# EAGLE library part FEMALE_44-PIN_CARD_EDGE_CONNECTOR (library female-44-pin-edge-connector)
Female Connector for Commodore 64 44-Contact (22 top + 22 bottom) Expansion Port Card-Edge. Contacts are on a 0.1" (2.54 mm) pitch. Row pitch is 0.2" (5.08 mm). Contacts are numbered 1 to 22 on top and A to Z on bottom (excludes G, I, O, and Q). Contacts 1 and A are on same end of card-edge. Accepts board thickness of 0.062" (1.57 mm).
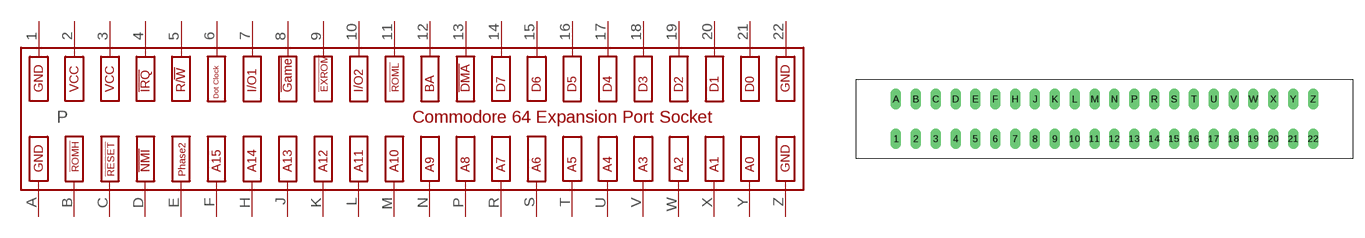
[diagram p0: symbol with the pads of FEMALE_44-PIN_CARD_EDGE_CONNECTOR; footprint FEMALE_44-PIN_CARD_EDGE_CONNECTOR]

Designator prefix P

## FEMALE_44-PIN_CARD_EDGE_CONNECTOR  [FEMALE_44-PIN_CARD_EDGE_CONNECTOR]
1  GND  pwr
2  VCC  pwr
3  VCC  pwr
4  !IRQ
5  R/!W
6  DOT_CLOCK
7  I/O1
8  !GAME
9  !EXROM
10  I/O2
11  !ROML
12  BA
13  !DMA
14  D7
15  D6
16  D5
17  D4
18  D3
19  D2
20  D1
21  D0
22  GND  pwr
A  GND  pwr
B  !ROMH
C  !RESET
D  !NMI
E  PHASE2
F  A15
H  A14
J  A13
K  A12
L  A11
M  A10
N  A9
P  A8
R  A7
S  A6
T  A5
U  A4
V  A3
W  A2
X  A1
Y  A0
Z  GND  pwr

## Footprint FEMALE_44-PIN_CARD_EDGE_CONNECTOR (pad centres in mm)
Female Connector for Commodore 64 44-Contact (22 top + 22 bottom) Expansion Port Card-Edge. Contacts are on a 0.1" (2.54 mm) pitch. Row pitch is 0.2" (5.08 mm). Contacts are numbered 1 to 22 on top and A to Z on bottom (excludes G, I, O, and Q). Contacts 1 and A are on same end of card-edge. Accepts board thickness of 0.062" (1.57 mm).
drill 0.813 long: 1 -26.67,-2.54; 2 -24.13,-2.54; 3 -21.59,-2.54; 4 -19.05,-2.54; 5 -16.51,-2.54; 6 -13.97,-2.54; 7 -11.43,-2.54; 8 -8.89,-2.54; 9 -6.35,-2.54; 10 -3.81,-2.54; 11 -1.27,-2.54; 12 1.27,-2.54; 13 3.81,-2.54; 14 6.35,-2.54; 15 8.89,-2.54; 16 11.43,-2.54; 17 13.97,-2.54; 18 16.51,-2.54; 19 19.05,-2.54; 20 21.59,-2.54; 21 24.13,-2.54; 22 26.67,-2.54; A -26.67,2.54; B -24.13,2.54; C -21.59,2.54; D -19.05,2.54; E -16.51,2.54; F -13.97,2.54; H -11.43,2.54; J -8.89,2.54; K -6.35,2.54; L -3.81,2.54; M -1.27,2.54; N 1.27,2.54; P 3.81,2.54; R 6.35,2.54; S 8.89,2.54; T 11.43,2.54; U 13.97,2.54; V 16.51,2.54; W 19.05,2.54; X 21.59,2.54; Y 24.13,2.54; Z 26.67,2.54